# Altium schematic symbol library BIOWOLF.SCHLIB: 72 symbols (part 2 of 2)
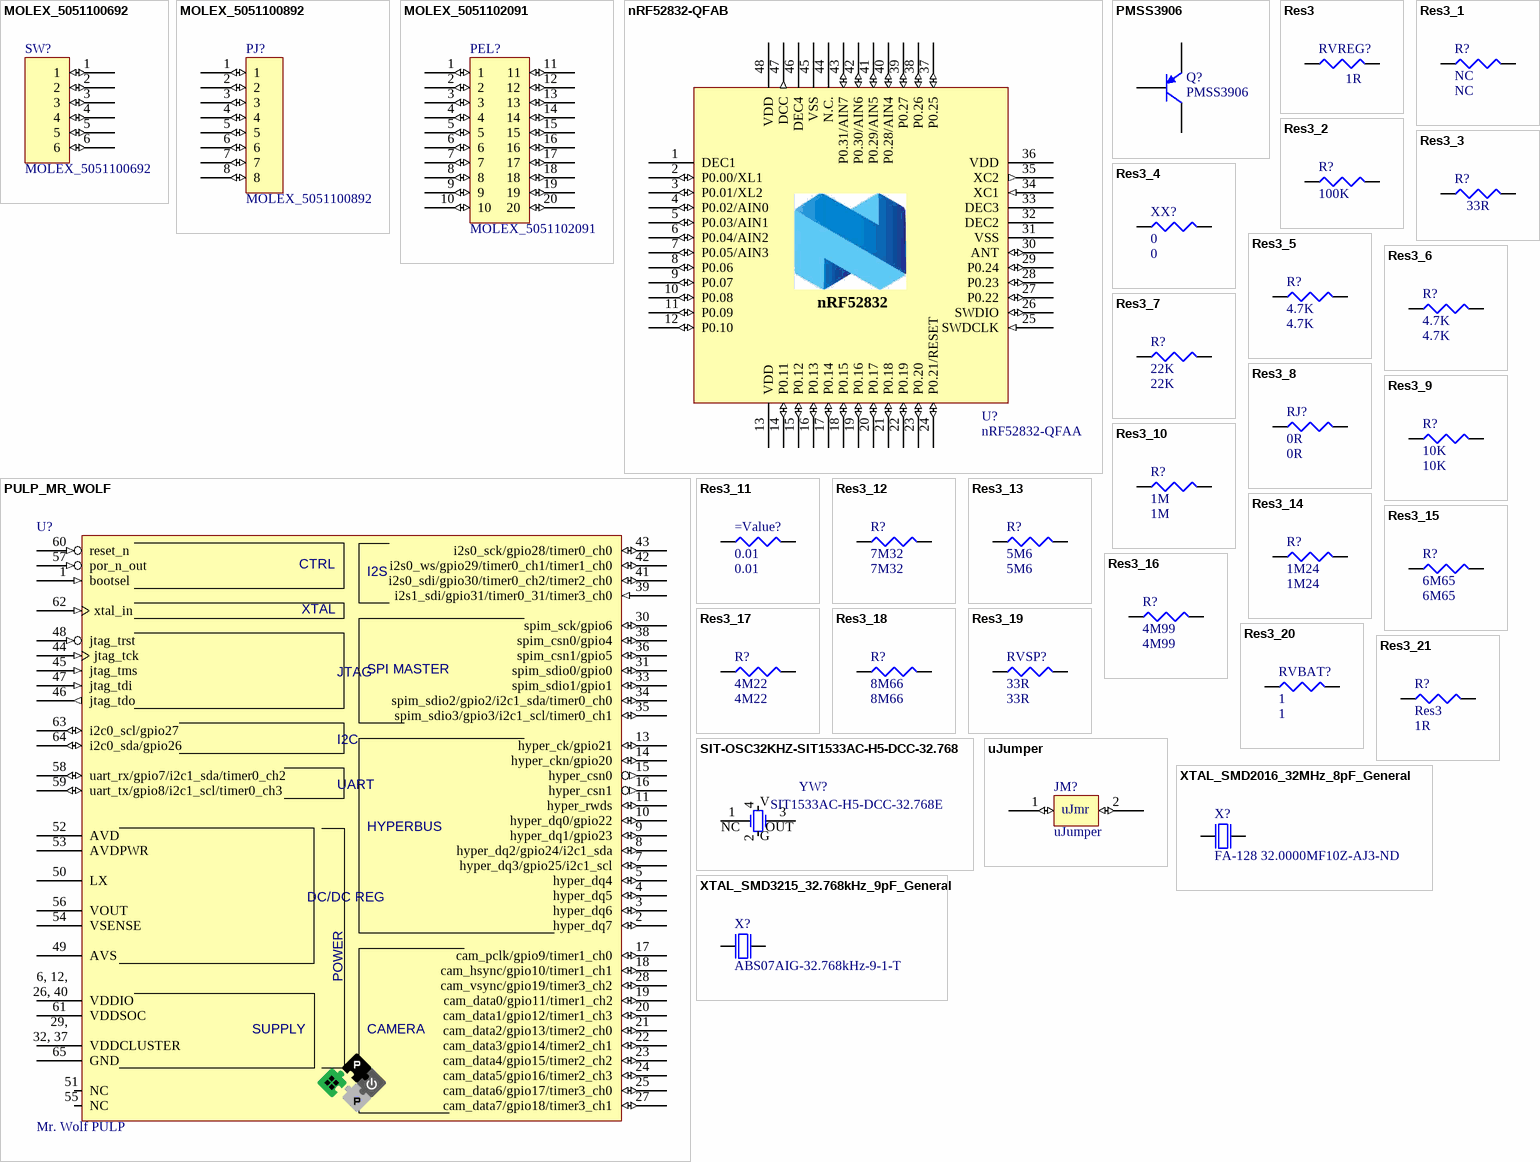
[diagram p2: symbols MOLEX_5051100692 to XTAL_SMD3215_32.768kHz_9pF_General]

## SIT-OSC32KHZ-SIT1533AC-H5-DCC-32.768
designator YW?, comment SIT1533AC-H5-DCC-32.768E
20 ppm, Ultra-Low Power 32.768 kHz Quartz XTAL Replacement; Current - Supply (max): 1.3uA; ComponentLink1URL: http://www.sitime.com/products/datasheets/sit1533/SiT1533-datasheet.pdf; ComponentLink1Description: Datasheet; Frequency: 32.768kHz; Supplier 1: Digi-Key; Supplier Part Number 1: 1473-1515-2-ND; Supplier 2: Digi-Key; Supplier Part Number 2: 1473-1515-1-ND; Supplier 3: Digi-Key; Supplier Part Number 3: 1473-1515-6-ND; Supplier 4: Digi-Key; Supplier Part Number 4: 1473-1516-2-ND; Supplier 5: Digi-Key; Supplier Part Number 5: 1473-1516-1-ND; Supplier 6: Digi-Key; Supplier Part Number 6: 1473-1516-6-ND; Supplier 7: Digi-Key; Supplier Part Number 7: SIT1533AC-H5-DCC-32.768S-ND; Supplier 8: Digi-Key; Supplier Part Number 8: SIT1533AC-H5-DCC-32.768D-ND
footprint SiT1533-C (Ultra-Low Power Quartz XTAL Replacement - XTAL Compatible Footprint)
footprint SiT1533-L (Ultra-Low Power Quartz XTAL Replacement)
footprint SiT1533-M (Ultra-Low Power Quartz XTAL Replacement with Large Center Pads)
pins: 1 NC, 2 GND (power), 3 OUT, 4 VDD (power)
1 alternate drawing of the same symbol
text: V; G

## uJumper
designator JM?
footprint UJMPR (Micro Jumper)
pins: 1 (io), 2 (io)
text: uJmr

## XTAL_SMD2016_32MHz_8pF_General
designator X?, comment FA-128 32.0000MF10Z-AJ3-ND
XTAL SMD 2016, 32MHz, Cl=8pF, Total Tol: ±40ppm; Part Number: XTAL_SMD2016_32MHz_8pF_General; Note: XTAL SMD 32.000MHz; Artikkelnr Noca: N.A.; Manufacturer: *; Manufacturer Part Number: *; Datasheet: *; LatestRevisionDate: 2016-08-19; Pin Count: 4; Publisher: Nordic Semiconductor; Published: 2016-08-19; Value: 32MHz; Supplier: *; Supplier part number: *; 2nd source Supplier: *; 2nd source part number: *; Footprint Doc: XTAL_2016; Artikkelnr Simpro: N.A.
footprint BT-XTAL_2016
pins: 1 inp, 2 GND hidden to GND, 3 out, 4 GND hidden to GND

## XTAL_SMD3215_32.768kHz_9pF_General
designator X?, comment ABS07AIG-32.768kHz-9-1-T
XTAL SMD 3215, 32.768kHz, Cl=9pF, Total Tol: ±50ppm; Part Number: XTAL_SMD3215_32.768kHz_9pF_General; Note: XTAL SMD 32.768kHz; Artikkelnr Noca: N.A.; Manufacturer: *; Manufacturer Part Number: *; Datasheet: *; LatestRevisionDate: 2016-08-19; Pin Count: 2; Publisher: Nordic Semiconductor; Published: 2016-08-19; Value: 32.768kHz; Supplier: *; Supplier part number: *; 2nd source Supplier: *; 2nd source part number: *; Footprint Doc: XTAL_3215; Artikkelnr Simpro: N.A.
footprint XTAL_3215
pins: 1 inp, 2 out